# EAGLE library part 2716-204/000-006 (library con-wago_2716)
Serie 2716, Stand: 01.01.2012. Die jeweils aktuellen Daten zu diesem Artikel finden Sie in unserem Produktkatalog, den Sie unter www.wago.com einsehen können. As of: 01/01/2012. Please find the newest data for this article in our product catalogue, which can be viewed under www.wago.com.
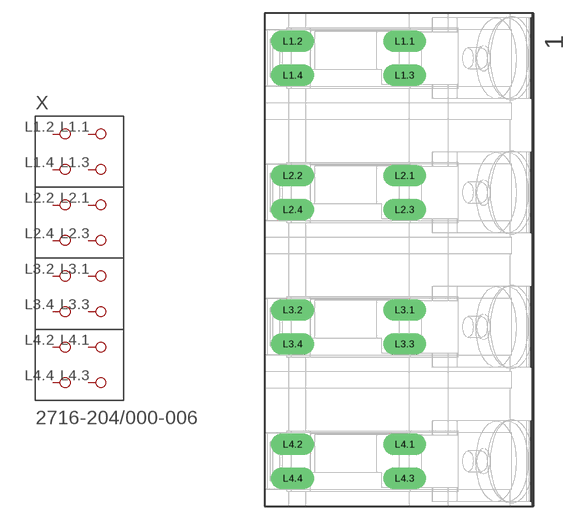
[diagram p23: symbol with the pads of P-2716-204; footprint P-2716-204]

Designator prefix X

## 2716-204/000-006  [P-2716-204]
L1.1  P1.1
L1.2  P1.2
L1.3  P1.3
L1.4  P1.4
L2.1  P2.1
L2.2  P2.2
L2.3  P2.3
L2.4  P2.4
L3.1  P3.1
L3.2  P3.2
L3.3  P3.3
L3.4  P3.4
L4.1  P4.1
L4.2  P4.2
L4.3  P4.3
L4.4  P4.4

## Footprint P-2716-204 (pad centres in mm)
drill 1.6 long: L1.1 0.6,24.4; L1.2 -11.9,24.4; L1.3 0.6,20.6; L1.4 -11.9,20.6; L2.1 0.6,9.4; L2.2 -11.9,9.4; L2.3 0.6,5.6; L2.4 -11.9,5.6; L3.1 0.6,-5.6; L3.2 -11.9,-5.6; L3.3 0.6,-9.4; L3.4 -11.9,-9.4; L4.1 0.6,-20.6; L4.2 -11.9,-20.6; L4.3 0.6,-24.4; L4.4 -11.9,-24.4